# Altium integrated library Xilinx Virtex-E.IntLib: 288 symbols (part 11 of 73)
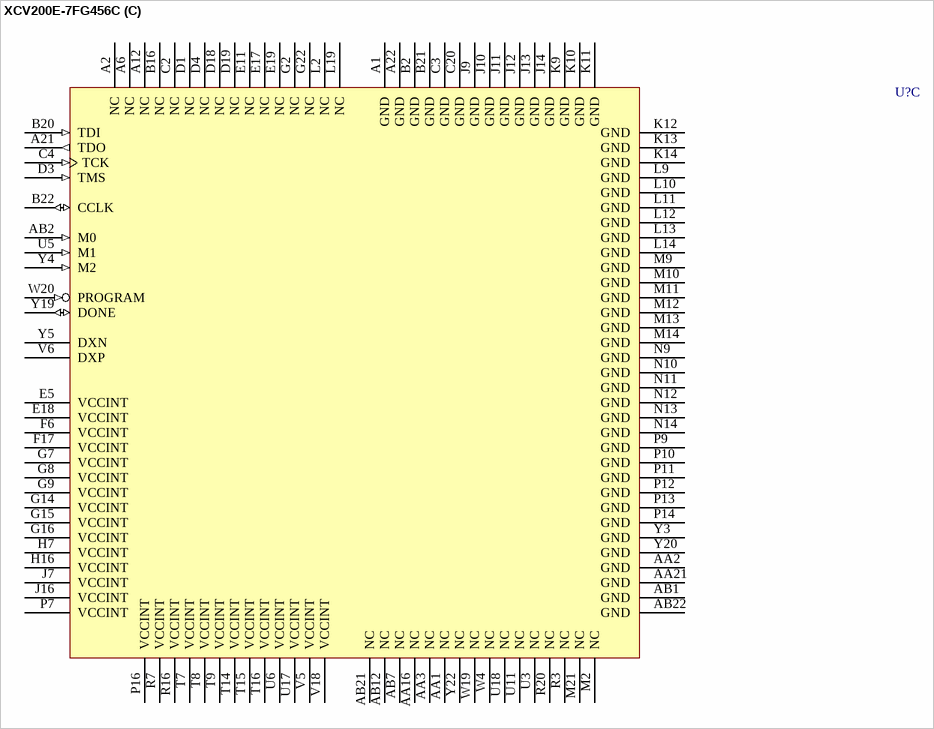
[diagram p504: symbol XCV200E-7FG456C]

## XCV200E-7FG456C
designator U?
Virtex-E 1.8V FPGA, 456-Ball FBGA, Commercial Grade; PackageDocument: ver1.1, Apr-2001; Note: Solder pads are defined by the copper, i.e. non-soldermask defined (NSMD); Published: 19-Sep-2001; LatestRevisionDate: 17-Jul-2002; LatestRevisionNote: Re-released for DXP Platform.; DatasheetDocument: Mar-2003; PackageReference: FG456; Publisher: Altium Limited; Code_JEDEC: MO-151-AAJ-1
footprint FG456 (456-Ball Fine Pitch Ball Grid Array (FG456))
3D model XCV200E-FG456 (456-Ball Fine Pitch Ball Grid Array (FG456))
signal-integrity model XCV200E_FG456 (Virtex-E)
part A pins: A11 GCK2 (in), A13 IO_L15P_Y (io), A14 IO (io), A15 IO_L19P_Y (io), A16 IO_L21N_YY (io), A17 IO_L23P_Y (io), A18 IO_VREF_L24P_YY (io), A19 IO_VREF_L26P_YY (io), A20 IO_WRITE_L28N_YY (io), AA4 IO_L87P_YY (io), AA5 IO_VREF_L85N_YY (io), AA6 IO_L84N_Y (io), AA7 IO_L83N_Y (io), AA8 IO_L81N_YY (io), AA9 IO (io), AA10 IO (io), AA11 IO_LVDS_DLL_L75N (io), AA22 IO_L58N_YY (io), AB3 IO_L88N_YY (io), AB4 IO (io), AB5 IO_L85P_YY (io), AB6 IO_L84P_Y (io), AB8 IO (io), AB9 IO_L80P_Y (io), AB10 IO_L78P_YY (io), AB11 IO_L76P_Y (io), B1 IO (io), B12 IO_L15N_Y (io), B13 IO_VREF_L16P_YY (io), B14 IO_L18N_Y (io), B15 IO_L20N_YY (io), B17 IO_L24N_YY (io), B18 IO_L26N_YY (io), B19 IO (io), C1 IO_L118P_YY (io), C12 IO_L14N_Y (io), C13 IO_L17N_YY (io), C14 IO_L18P_Y (io), C15 IO_L20P_YY (io), C16 IO_L22P_Y (io), C17 IO_L25P_YY (io), C18 IO_L27P_YY (io), C19 IO_CS_L28P_YY (io), D2 IO_VREF_L117P_YY (io), D11 IO_LVDS_DLL_L13P (io), D12 IO_L14P_Y (io), D13 IO_L17P_YY (io), D14 IO_L22N_Y (io), D15 IO_L23N_Y (io), D16 IO_L25N_YY (io), D17 IO_L27N_YY (io), E1 IO_L115N_YY (io), E2 IO_VREF_L115P_YY (io), E3 IO_L117N_YY (io), E4 IO (io), E12 IO_L16N_YY (io), E13 IO (io), E14 IO_VREF_L21P_YY (io), E15 IO (io), E16 IO (io), F1 IO_L113N_Y (io), F2 IO_L113P_Y (io), F3 IO_L116N_YY (io), F4 IO (io), F5 IO_L118N_YY (io), F12 IO_L19N_Y (io), F13 VCCO (power), F14 VCCO (power), F15 VCCO (power), F16 VCCO (power), G1 IO_L112N_Y (io), G3 IO_L114P_YY (io), G4 IO (io), G5 IO_L116P_YY (io), G6 VCCO (power), G12 VCCO (power), G13 VCCO (power), H1 IO_L110P_YY (io), H2 IO_L111N_YY (io), H3 IO_L111P_YY (io), H4 IO_VREF_L112P_Y (io), H5 IO_L114N_YY (io), H6 VCCO (power), J1 IO (io), J2 IO_L109P_YY (io), J3 IO_L109N_YY (io), J4 IO (io), J5 IO_L110N_YY (io), J6 VCCO (power), K1 IO_L108N_YY (io), K2 IO_L106P_Y (io), K3 IO_VREF_L107P_Y (io), K4 IO_L107N_Y (io), K5 IO_L108P_YY (io), K6 VCCO (power), K7 VCCO (power), L1 IO_L105P_YY (io), L3 IO_L104N_YY (io), L4 IO_L104P_YY (io), L5 IO_L105N_YY (io), L6 IO_L106N_Y (io), L7 VCCO (power), M16 VCCO (power), M17 IO_L46N_Y (io), M18 IO_L45P_YY (io), M19 IO_L46P_Y (io), M20 IO_L45N_YY (io), M22 IO (io), N16 VCCO (power), N17 VCCO (power), N18 IO_L48N_YY (io), N19 IO_L49P_YY (io), N20 IO_L48P_YY (io), N21 IO_VREF_L47N_Y (io), N22 IO_D4_L47P_Y (io), P17 VCCO (power), P18 IO_L51P_YY (io), P19 IO_L50N_YY (io), P20 IO_L50P_YY (io), P21 IO_L49N_YY (io), P22 IO (io), R17 VCCO (power), R18 IO_L53N_Y (io), R19 IO_VREF_L52N_Y (io), R21 IO_D5_L51N_YY (io), R22 IO (io), T10 VCCO (power), T11 VCCO (power), T17 VCCO (power), T18 IO_L56N_YY (io), T19 IO (io), T20 IO_L55P_YY (io), T21 IO_L54P_YY (io), T22 IO_D6_L52P_Y (io), U7 VCCO (power), U8 VCCO (power), U9 VCCO (power), U10 VCCO (power), U19 IO_L57P_YY (io), U20 IO_VREF_L57N_YY (io), U21 IO_VREF_L55N_YY (io), U22 IO_L53P_Y (io), V7 IO_L88P_YY (io), V8 IO (io), V9 IO_L81P_YY (io), V10 IO_L79P_Y (io), V11 IO_L77P_YY (io), V19 IO_INIT_L59N_YY (io), V20 IO (io), V21 IO (io), V22 IO_L54N_YY (io), W5 IO (io), W6 IO_L86N_YY (io), W7 IO_L83P_Y (io), W8 IO_VREF_L82N_YY (io), W9 IO_L80N_Y (io), W10 IO_L78N_YY (io), W11 IO_L76N_Y (io), W21 IO_L58P_YY (io), W22 IO_L56P_YY (io), Y6 IO_VREF_L87N_YY (io), Y7 IO_L86P_YY (io), Y8 IO_L82P_YY (io), Y9 IO_L79N_Y (io), Y10 IO_VREF_L77N_YY (io), Y11 GCK1 (in), Y21 IO_D7_L59P_YY (io)
part B pins: A3 IO (io), A4 IO_L2N (io), A5 IO_L4N_Y (io), A7 IO_L7N_YY (io), A8 IO_L9P_Y (io), A9 IO_VREF_L11N_YY (io), A10 IO (io), AA12 IO_L73N_Y (io), AA13 IO_VREF_L72P_YY (io), AA14 IO_L70N_Y (io), AA15 IO_L68P_YY (io), AA17 IO_L65N_Y (io), AA18 IO_L63P (io), AA19 IO (io), AA20 IO_L60N_YY (io), AB13 IO_L72N_YY (io), AB14 IO_L71P (io), AB15 IO_L68N_YY (io), AB16 IO_VREF_L67P_YY (io), AB17 IO (io), AB18 IO_L64N_YY (io), AB19 IO_VREF_L64P_YY (io), AB20 IO_VREF_L62P_YY (io), B3 IO_L0P (io), B4 IO_VREF_L1N_YY (io), B5 IO (io), B6 IO_L4P_Y (io), B7 IO_L6P_YY (io), B8 IO_L8P_Y (io), B9 IO (io), B10 IO_L12P_Y (io), B11 IO_LVDS_DLL_L13N (io), C5 IO (io), C6 IO_VREF_L3N_YY (io), C7 IO_L5P_Y (io), C8 IO_L8N_Y (io), C9 IO_L10N (io), C10 IO_L11P_YY (io), C11 GCK3 (in), C21 IO_DOUT_BUSY_L29P_YY (io), C22 IO_L30P_YY (io), D5 IO_L0N (io), D6 IO_L3P_YY (io), D7 IO_L5N_Y (io), D8 IO (io), D9 IO_L9N_Y (io), D10 IO (io), D20 IO_DIN_D0_L29N_YY (io), D21 IO_L30N_YY (io), D22 IO_VREF_L31P_YY (io), E6 IO_L1P_YY (io), E7 IO_L2P (io), E8 IO_VREF_L6N_YY (io), E9 IO_L7P_YY (io), E10 IO_L10P (io), E20 IO (io), E21 IO_L31N_YY (io), E22 IO_L32P_YY (io), F7 VCCO (power), F8 VCCO (power), F9 VCCO (power), F10 VCCO (power), F11 IO_L12N_Y (io), F18 IO_L32N_YY (io), F19 IO_L33N_YY (io), F20 IO (io), F21 IO_VREF_L33P_YY (io), F22 IO_L34P_Y (io), G10 VCCO (power), G11 VCCO (power), G17 VCCO (power), G18 IO_L35N_Y (io), G19 IO_L34N_Y (io), G20 IO_L35P_Y (io), G21 IO (io), H17 VCCO (power), H18 IO_VREF_L36P_Y (io), H19 IO_L37N_YY (io), H20 IO_D2_L37P_YY (io), H21 IO_L38P_YY (io), H22 IO_D1_L36N_Y (io), J17 VCCO (power), J18 IO_L39P_YY (io), J19 IO_L38N_YY (io), J20 IO_L39N_YY (io), J21 IO_L40N_Y (io), J22 IO (io), K16 VCCO (power), K17 VCCO (power), K18 IO_L40P_Y (io), K19 IO_L42P_Y (io), K20 IO_D3 (io), K21 IO_VREF_L41N (io), K22 IO_L41P (io), L16 VCCO (power), L17 IO_L44P_YY (io), L18 IO_L43N_YY (io), L20 IO_L44N_YY (io), L21 IO_L43P_YY (io), L22 IO_L42N_Y (io), M1 IO (io), M3 IO_L103N_YY (io), M4 IO_L102P_Y (io), M5 IO (io), M6 IO_L103P_YY (io), M7 VCCO (power), N1 IO_L102N_Y (io), N2 IO_VREF_L101P (io), N3 IO_L101N (io), N4 IO_L100P_Y (io), N5 IO_L99P_YY (io), N6 VCCO (power), N7 VCCO (power), P1 IO_L100N_Y (io), P2 IO_L99N_YY (io), P3 IO_L97P_YY (io), P4 IO (io), P5 IO_L98N_YY (io), P6 VCCO (power), R1 IO_L98P_YY (io), R2 IO_L97N_YY (io), R4 IO_VREF_L96N_Y (io), R5 IO_L95N_Y (io), R6 VCCO (power), T1 IO_L96P_Y (io), T2 IO (io), T3 IO_VREF_L93N_YY (io), T4 IO (io), T5 IO_L94N_Y (io), T6 VCCO (power), T12 VCCO (power), T13 VCCO (power), U1 IO_L95P_Y (io), U2 IO_L93P_YY (io), U4 IO_L91P_YY (io), U12 IO_LVDS_DLL_L75P (io), U13 VCCO (power), U14 VCCO (power), U15 VCCO (power), U16 VCCO (power), V1 IO_L94P_Y (io), V2 IO_L92N_YY (io), V3 IO_L90P_YY (io), V4 IO_L90N_YY (io), V12 IO_L74N_Y (io), V13 IO_L71N (io), V14 IO_L70P_Y (io), V15 IO_L66N_Y (io), V16 IO_L63N (io), V17 IO_L61N (io), W1 IO_L92P_YY (io), W2 IO (io), W3 IO_L89N_YY (io), W12 GCK0 (in), W13 IO_L73P_Y (io), W14 IO (io), W15 IO_L69P_Y (io), W16 IO_L65P_Y (io), W17 IO_L62N_YY (io), W18 IO_L60P_YY (io), Y1 IO_VREF_L91N_YY (io), Y2 IO_L89P_YY (io), Y12 IO_L74P_Y (io), Y13 IO (io), Y14 IO_L69N_Y (io), Y15 IO_L67N_YY (io), Y16 IO_L66P_Y (io), Y17 IO (io), Y18 IO_L61P (io)
part C pins: A1 GND (power), A2 NC, A6 NC, A12 NC, A21 TDO (out), A22 GND (power), AA1 NC, AA2 GND (power), AA3 NC, AA16 NC, AA21 GND (power), AB1 GND (power), AB2 M0 (in), AB7 NC, AB12 NC, AB21 NC, AB22 GND (power), B2 GND (power), B16 NC, B20 TDI (in), B21 GND (power), B22 CCLK (io), C2 NC, C3 GND (power), C4 TCK (in), C20 GND (power), D1 NC, D3 TMS (in), D4 NC, D18 NC, D19 NC, E5 VCCINT (power), E11 NC, E17 NC, E18 VCCINT (power), E19 NC, F6 VCCINT (power), F17 VCCINT (power), G2 NC, G7 VCCINT (power), G8 VCCINT (power), G9 VCCINT (power), G14 VCCINT (power), G15 VCCINT (power), G16 VCCINT (power), G22 NC, H7 VCCINT (power), H16 VCCINT (power), J7 VCCINT (power), J9 GND (power), J10 GND (power), J11 GND (power), J12 GND (power), J13 GND (power), J14 GND (power), J16 VCCINT (power), K9 GND (power), K10 GND (power), K11 GND (power), K12 GND (power), K13 GND (power), K14 GND (power), L2 NC, L9 GND (power), L10 GND (power), L11 GND (power), L12 GND (power), L13 GND (power), L14 GND (power), L19 NC, M2 NC, M9 GND (power), M10 GND (power), M11 GND (power), M12 GND (power), M13 GND (power), M14 GND (power), M21 NC, N9 GND (power), N10 GND (power), N11 GND (power), N12 GND (power), N13 GND (power), N14 GND (power), P7 VCCINT (power), P9 GND (power), P10 GND (power), P11 GND (power), P12 GND (power), P13 GND (power), P14 GND (power), P16 VCCINT (power), R3 NC, R7 VCCINT (power), R16 VCCINT (power), R20 NC, T7 VCCINT (power), T8 VCCINT (power), T9 VCCINT (power), T14 VCCINT (power), T15 VCCINT (power), T16 VCCINT (power), U3 NC, U5 M1 (in), U6 VCCINT (power), U11 NC, U17 VCCINT (power), U18 NC, V5 VCCINT (power), V6 DXP, V18 VCCINT (power), W4 NC, W19 NC, W20 PROGRAM (in), Y3 GND (power), Y4 M2 (in), Y5 DXN, Y19 DONE (io), Y20 GND (power), Y22 NC
part A text: BANK 1; BANK 7; BANK 3; BANK 5
part B text: BANK 0; BANK 6; BANK 2; BANK 4

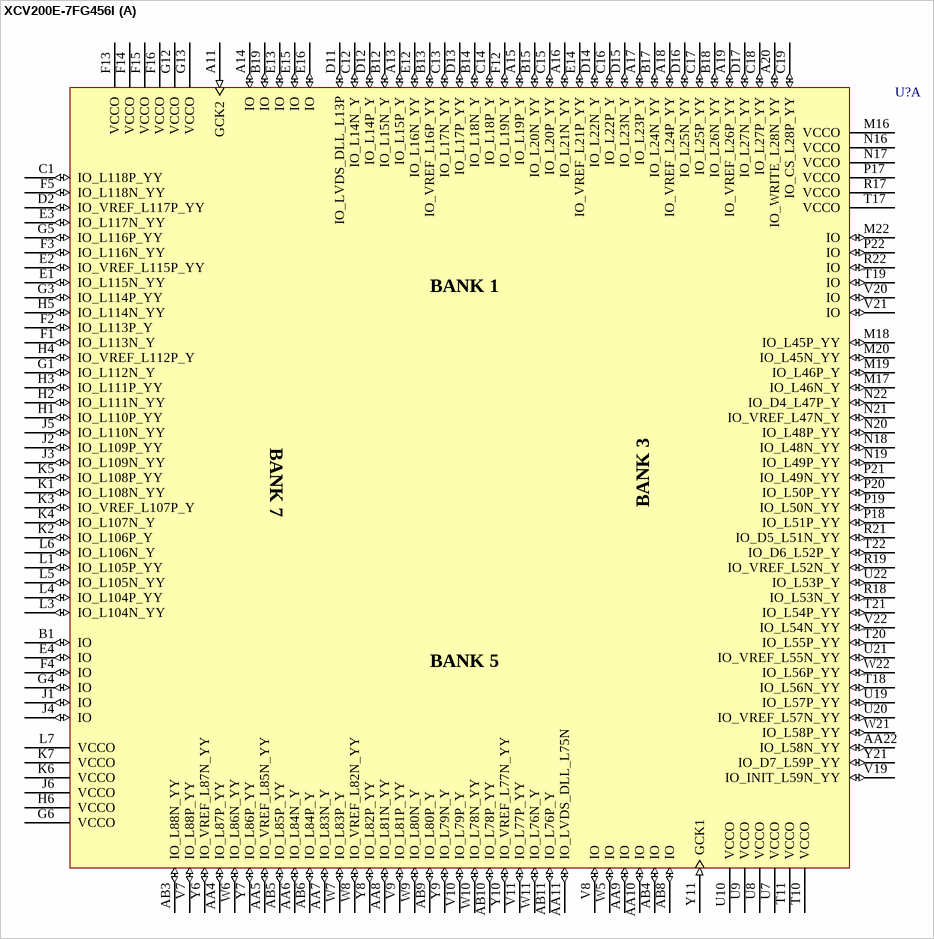
[diagram p56: symbol XCV200E-7FG456I]

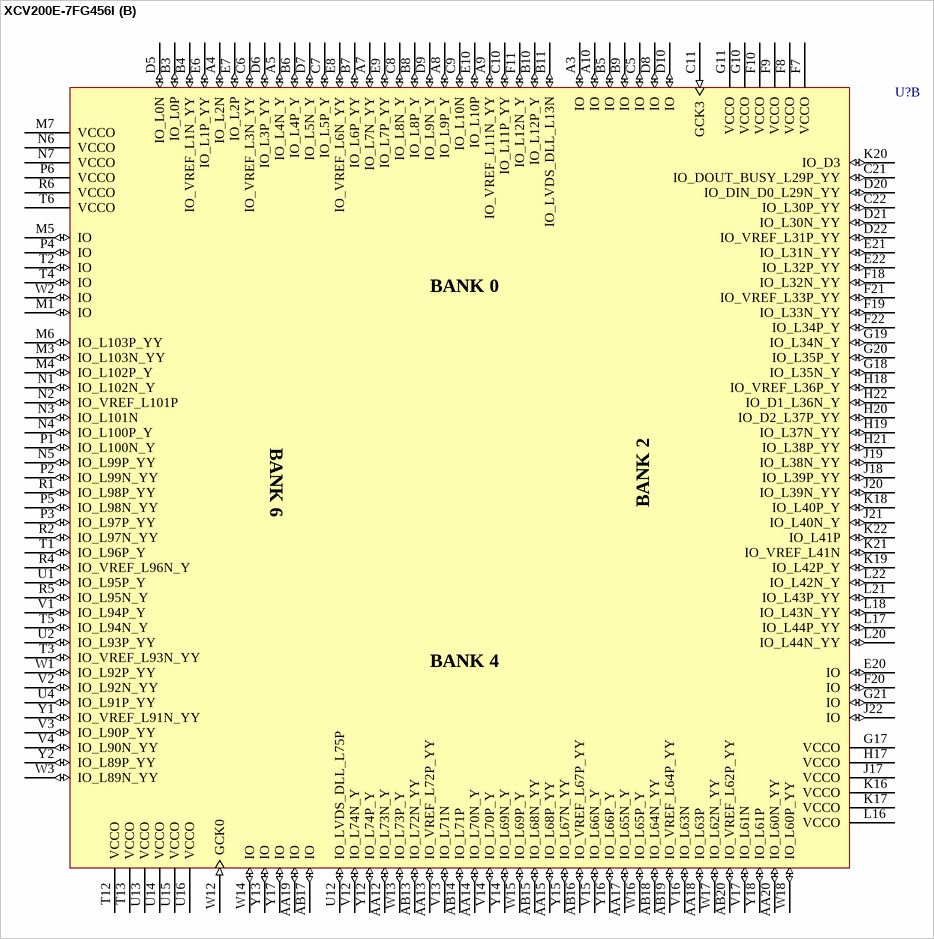
[diagram p57: symbol XCV200E-7FG456I]

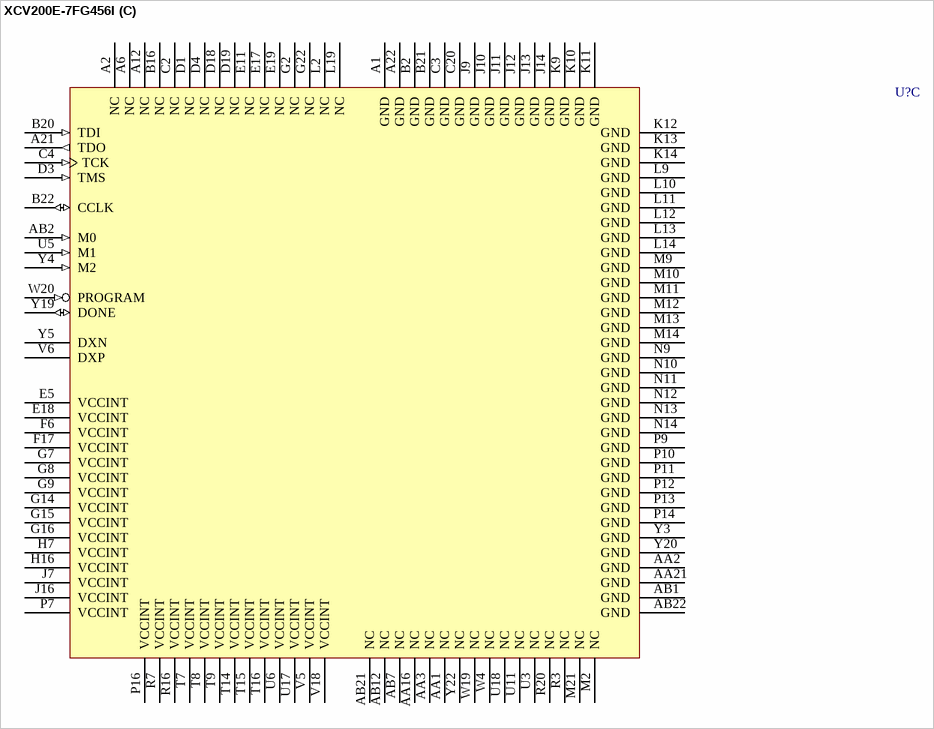
[diagram p58: symbol XCV200E-7FG456I]